# Altium integrated library Lattice FPGA XP2.IntLib: 160 symbols (part 12 of 34)
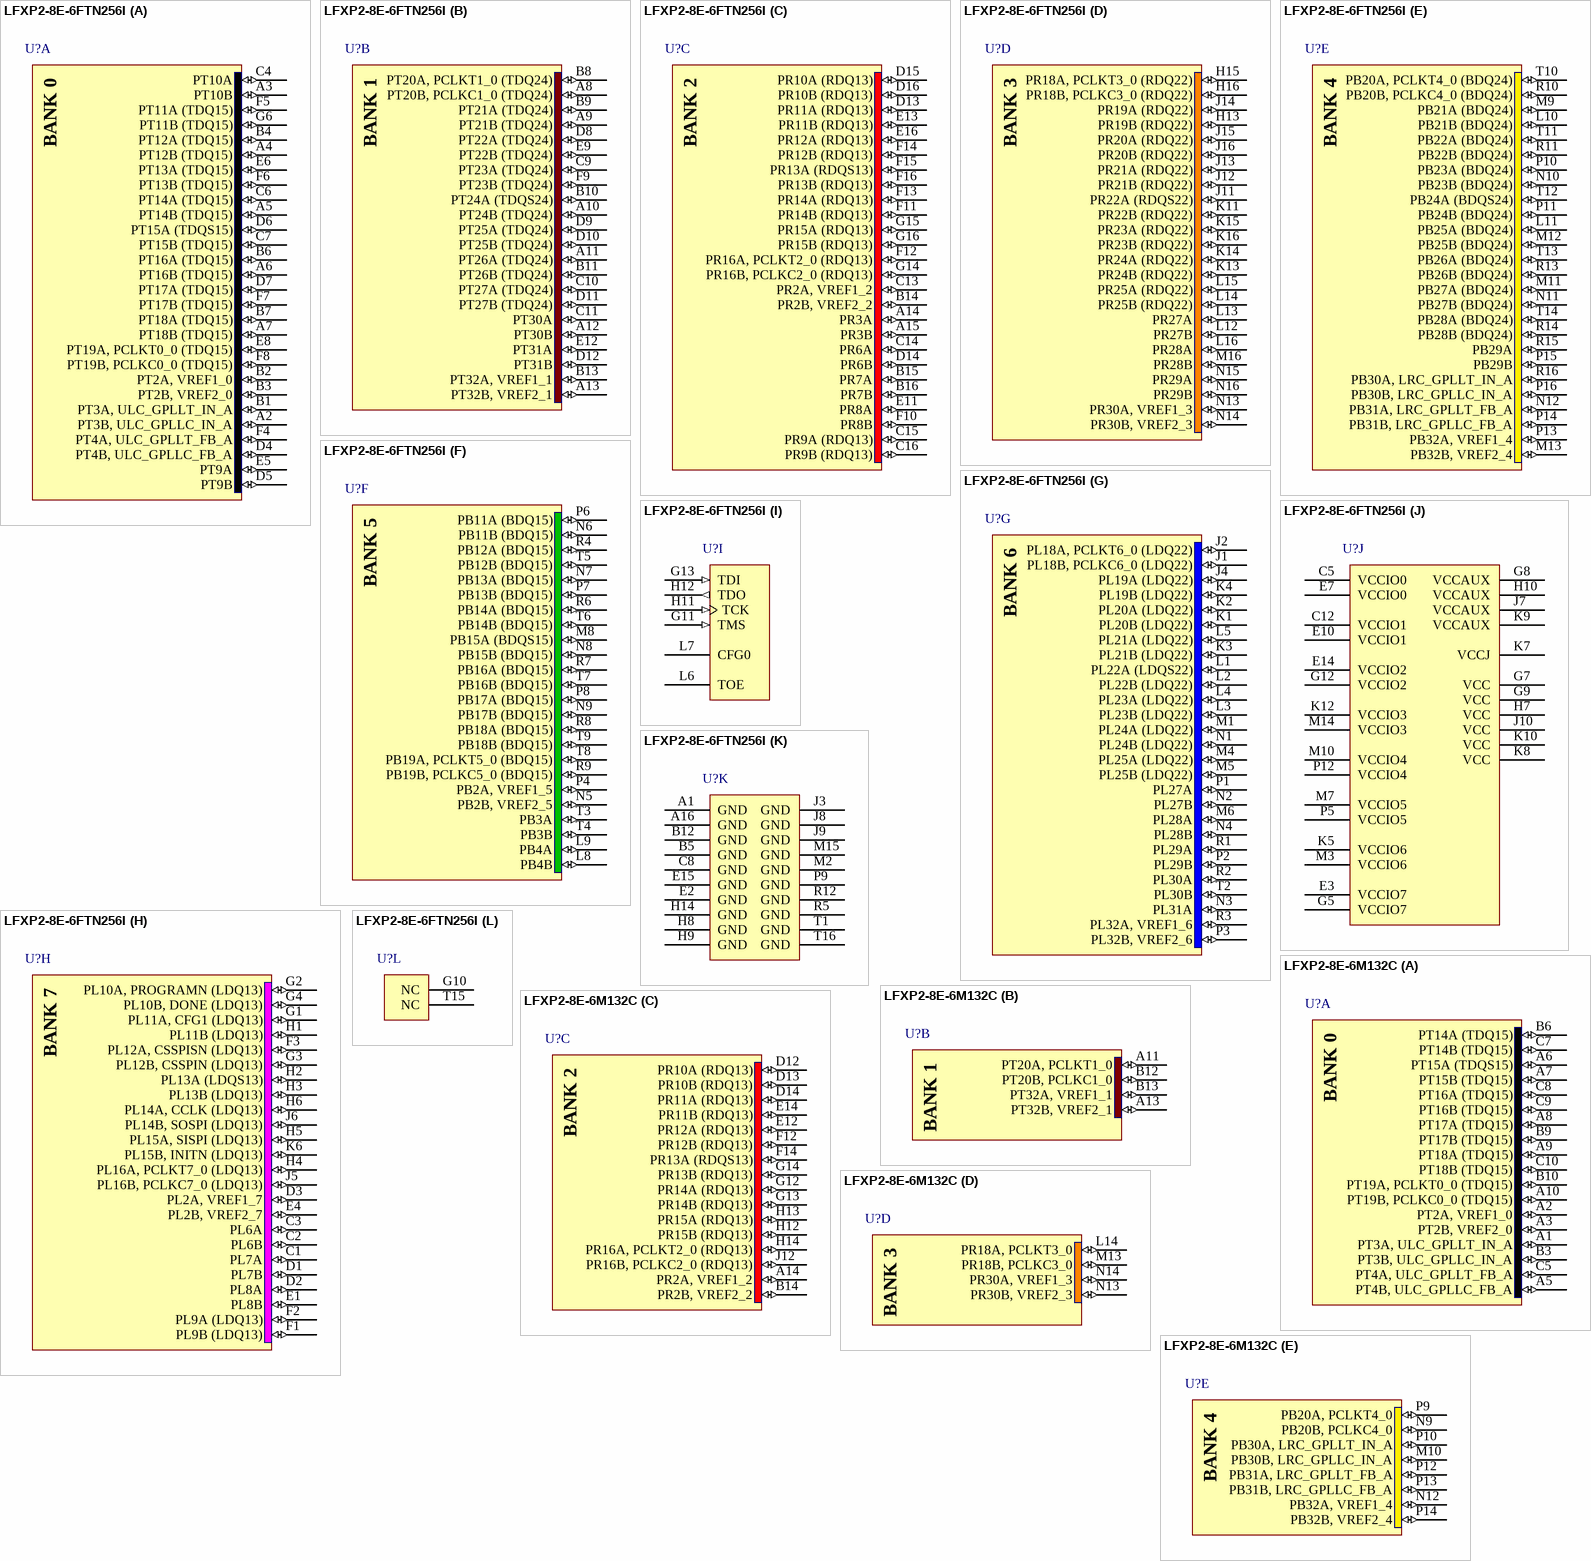
[diagram p278: symbols LFXP2-8E-6FTN256I to LFXP2-8E-6M132C]

## LFXP2-8E-6FTN256I
designator U?
XP2, 1.2V FPGA, 201 I/Os, 8K LUTs, 256-Pin ftBGA, Speed Grade 6, Industrial Grade, Pb-Free; Published: 18-Jun-2008; DatasheetVersion: ver01.8, Jun-2008; PackageVersion: ver01.6 Apr-2008; PackageReference: ftBGA256; Publisher: Altium Limited; PackageDescription: 256-Ball Fine Thin Ball Grid Array (ftBGA256); ComponentLink1Description: Manufacturer Link; ComponentLink1URL: http://www.latticesemi.com/products/fpga/xp2/index.cfm; ComponentLink2Description: Datasheet; ComponentLink2URL: http://www.latticesemi.com/documents/DS1009.pdf; ComponentLink3Description: Packaging Specification; ComponentLink3URL: http://www.latticesemi.com/lit/docs/package/pkg.pdf
footprint ftBGA256 (BGA, 256-Leads, Body 17x17mm, Pitch 1mm)
3D model LFXP2-8E-FT256 (256-Ball Fine Thin Ball Grid Array (ftBGA256))
part A pins: A2 PT3B, ULC_GPLLC_IN_A (io), A3 PT10B (io), A4 PT12B (TDQ15) (io), A5 PT14B (TDQ15) (io), A6 PT16B (TDQ15) (io), A7 PT18B (TDQ15) (io), B1 PT3A, ULC_GPLLT_IN_A (io), B2 PT2A, VREF1_0 (io), B3 PT2B, VREF2_0 (io), B4 PT12A (TDQ15) (io), B6 PT16A (TDQ15) (io), B7 PT18A (TDQ15) (io), C4 PT10A (io), C6 PT14A (TDQ15) (io), C7 PT15B (TDQ15) (io), D4 PT4B, ULC_GPLLC_FB_A (io), D5 PT9B (io), D6 PT15A (TDQS15) (io), D7 PT17A (TDQ15) (io), E5 PT9A (io), E6 PT13A (TDQ15) (io), E8 PT19A, PCLKT0_0 (TDQ15) (io), F4 PT4A, ULC_GPLLT_FB_A (io), F5 PT11A (TDQ15) (io), F6 PT13B (TDQ15) (io), F7 PT17B (TDQ15) (io), F8 PT19B, PCLKC0_0 (TDQ15) (io), G6 PT11B (TDQ15) (io)
part B pins: A8 PT20B, PCLKC1_0 (TDQ24) (io), A9 PT21B (TDQ24) (io), A10 PT24B (TDQ24) (io), A11 PT26A (TDQ24) (io), A12 PT30B (io), A13 PT32B, VREF2_1 (io), B8 PT20A, PCLKT1_0 (TDQ24) (io), B9 PT21A (TDQ24) (io), B10 PT24A (TDQS24) (io), B11 PT26B (TDQ24) (io), B13 PT32A, VREF1_1 (io), C9 PT23A (TDQ24) (io), C10 PT27A (TDQ24) (io), C11 PT30A (io), D8 PT22A (TDQ24) (io), D9 PT25A (TDQ24) (io), D10 PT25B (TDQ24) (io), D11 PT27B (TDQ24) (io), D12 PT31B (io), E9 PT22B (TDQ24) (io), E12 PT31A (io), F9 PT23B (TDQ24) (io)
part C pins: A14 PR3A (io), A15 PR3B (io), B14 PR2B, VREF2_2 (io), B15 PR7A (io), B16 PR7B (io), C13 PR2A, VREF1_2 (io), C14 PR6A (io), C15 PR9A (RDQ13) (io), C16 PR9B (RDQ13) (io), D13 PR11A (RDQ13) (io), D14 PR6B (io), D15 PR10A (RDQ13) (io), D16 PR10B (RDQ13) (io), E11 PR8A (io), E13 PR11B (RDQ13) (io), E16 PR12A (RDQ13) (io), F10 PR8B (io), F11 PR14B (RDQ13) (io), F12 PR16A, PCLKT2_0 (RDQ13) (io), F13 PR14A (RDQ13) (io), F14 PR12B (RDQ13) (io), F15 PR13A (RDQS13) (io), F16 PR13B (RDQ13) (io), G14 PR16B, PCLKC2_0 (RDQ13) (io), G15 PR15A (RDQ13) (io), G16 PR15B (RDQ13) (io)
part D pins: H13 PR19B (RDQ22) (io), H15 PR18A, PCLKT3_0 (RDQ22) (io), H16 PR18B, PCLKC3_0 (RDQ22) (io), J11 PR22A (RDQS22) (io), J12 PR21B (RDQ22) (io), J13 PR21A (RDQ22) (io), J14 PR19A (RDQ22) (io), J15 PR20A (RDQ22) (io), J16 PR20B (RDQ22) (io), K11 PR22B (RDQ22) (io), K13 PR24B (RDQ22) (io), K14 PR24A (RDQ22) (io), K15 PR23A (RDQ22) (io), K16 PR23B (RDQ22) (io), L12 PR27B (io), L13 PR27A (io), L14 PR25B (RDQ22) (io), L15 PR25A (RDQ22) (io), L16 PR28A (io), M16 PR28B (io), N13 PR30A, VREF1_3 (io), N14 PR30B, VREF2_3 (io), N15 PR29A (io), N16 PR29B (io)
part E pins: L10 PB21B (BDQ24) (io), L11 PB25A (BDQ24) (io), M9 PB21A (BDQ24) (io), M11 PB27A (BDQ24) (io), M12 PB25B (BDQ24) (io), M13 PB32B, VREF2_4 (io), N10 PB23B (BDQ24) (io), N11 PB27B (BDQ24) (io), N12 PB31A, LRC_GPLLT_FB_A (io), P10 PB23A (BDQ24) (io), P11 PB24B (BDQ24) (io), P13 PB32A, VREF1_4 (io), P14 PB31B, LRC_GPLLC_FB_A (io), P15 PB29B (io), P16 PB30B, LRC_GPLLC_IN_A (io), R10 PB20B, PCLKC4_0 (BDQ24) (io), R11 PB22B (BDQ24) (io), R13 PB26B (BDQ24) (io), R14 PB28B (BDQ24) (io), R15 PB29A (io), R16 PB30A, LRC_GPLLT_IN_A (io), T10 PB20A, PCLKT4_0 (BDQ24) (io), T11 PB22A (BDQ24) (io), T12 PB24A (BDQS24) (io), T13 PB26A (BDQ24) (io), T14 PB28A (BDQ24) (io)
part F pins: L8 PB4B (io), L9 PB4A (io), M8 PB15A (BDQS15) (io), N5 PB2B, VREF2_5 (io), N6 PB11B (BDQ15) (io), N7 PB13A (BDQ15) (io), N8 PB15B (BDQ15) (io), N9 PB17B (BDQ15) (io), P4 PB2A, VREF1_5 (io), P6 PB11A (BDQ15) (io), P7 PB13B (BDQ15) (io), P8 PB17A (BDQ15) (io), R4 PB12A (BDQ15) (io), R6 PB14A (BDQ15) (io), R7 PB16A (BDQ15) (io), R8 PB18A (BDQ15) (io), R9 PB19B, PCLKC5_0 (BDQ15) (io), T3 PB3A (io), T4 PB3B (io), T5 PB12B (BDQ15) (io), T6 PB14B (BDQ15) (io), T7 PB16B (BDQ15) (io), T8 PB19A, PCLKT5_0 (BDQ15) (io), T9 PB18B (BDQ15) (io)
part G pins: J1 PL18B, PCLKC6_0 (LDQ22) (io), J2 PL18A, PCLKT6_0 (LDQ22) (io), J4 PL19A (LDQ22) (io), K1 PL20B (LDQ22) (io), K2 PL20A (LDQ22) (io), K3 PL21B (LDQ22) (io), K4 PL19B (LDQ22) (io), L1 PL22A (LDQS22) (io), L2 PL22B (LDQ22) (io), L3 PL23B (LDQ22) (io), L4 PL23A (LDQ22) (io), L5 PL21A (LDQ22) (io), M1 PL24A (LDQ22) (io), M4 PL25A (LDQ22) (io), M5 PL25B (LDQ22) (io), M6 PL28A (io), N1 PL24B (LDQ22) (io), N2 PL27B (io), N3 PL31A (io), N4 PL28B (io), P1 PL27A (io), P2 PL29B (io), P3 PL32B, VREF2_6 (io), R1 PL29A (io), R2 PL30A (io), R3 PL32A, VREF1_6 (io), T2 PL30B (io)
part H pins: C1 PL7A (io), C2 PL6B (io), C3 PL6A (io), D1 PL7B (io), D2 PL8A (io), D3 PL2A, VREF1_7 (io), E1 PL8B (io), E4 PL2B, VREF2_7 (io), F1 PL9B (LDQ13) (io), F2 PL9A (LDQ13) (io), F3 PL12A, CSSPISN (LDQ13) (io), G1 PL11A, CFG1 (LDQ13) (io), G2 PL10A, PROGRAMN (LDQ13) (io), G3 PL12B, CSSPIN (LDQ13) (io), G4 PL10B, DONE (LDQ13) (io), H1 PL11B (LDQ13) (io), H2 PL13A (LDQS13) (io), H3 PL13B (LDQ13) (io), H4 PL16A, PCLKT7_0 (LDQ13) (io), H5 PL15A, SISPI (LDQ13) (io), H6 PL14A, CCLK (LDQ13) (io), J5 PL16B, PCLKC7_0 (LDQ13) (io), J6 PL14B, SOSPI (LDQ13) (io), K6 PL15B, INITN (LDQ13) (io)
part I pins: G11 TMS (in), G13 TDI (in), H11 TCK (in), H12 TDO (out), L6 TOE, L7 CFG0
part J pins: C5 VCCIO0 (power), C12 VCCIO1 (power), E3 VCCIO7 (power), E7 VCCIO0 (power), E10 VCCIO1 (power), E14 VCCIO2 (power), G5 VCCIO7 (power), G7 VCC (power), G8 VCCAUX (power), G9 VCC (power), G12 VCCIO2 (power), H7 VCC (power), H10 VCCAUX (power), J7 VCCAUX (power), J10 VCC (power), K5 VCCIO6 (power), K7 VCCJ (power), K8 VCC (power), K9 VCCAUX (power), K10 VCC (power), K12 VCCIO3 (power), M3 VCCIO6 (power), M7 VCCIO5 (power), M10 VCCIO4 (power), M14 VCCIO3 (power), P5 VCCIO5 (power), P12 VCCIO4 (power)
part K pins: A1 GND (power), A16 GND (power), B5 GND (power), B12 GND (power), C8 GND (power), E2 GND (power), E15 GND (power), H8 GND (power), H9 GND (power), H14 GND (power), J3 GND (power), J8 GND (power), J9 GND (power), M2 GND (power), M15 GND (power), P9 GND (power), R5 GND (power), R12 GND (power), T1 GND (power), T16 GND (power)
part L pins: G10 NC, T15 NC
part A text: BANK 0
part B text: BANK 1
part C text: BANK 2
part D text: BANK 3
part E text: BANK 4
part F text: BANK 5
part G text: BANK 6
part H text: BANK 7

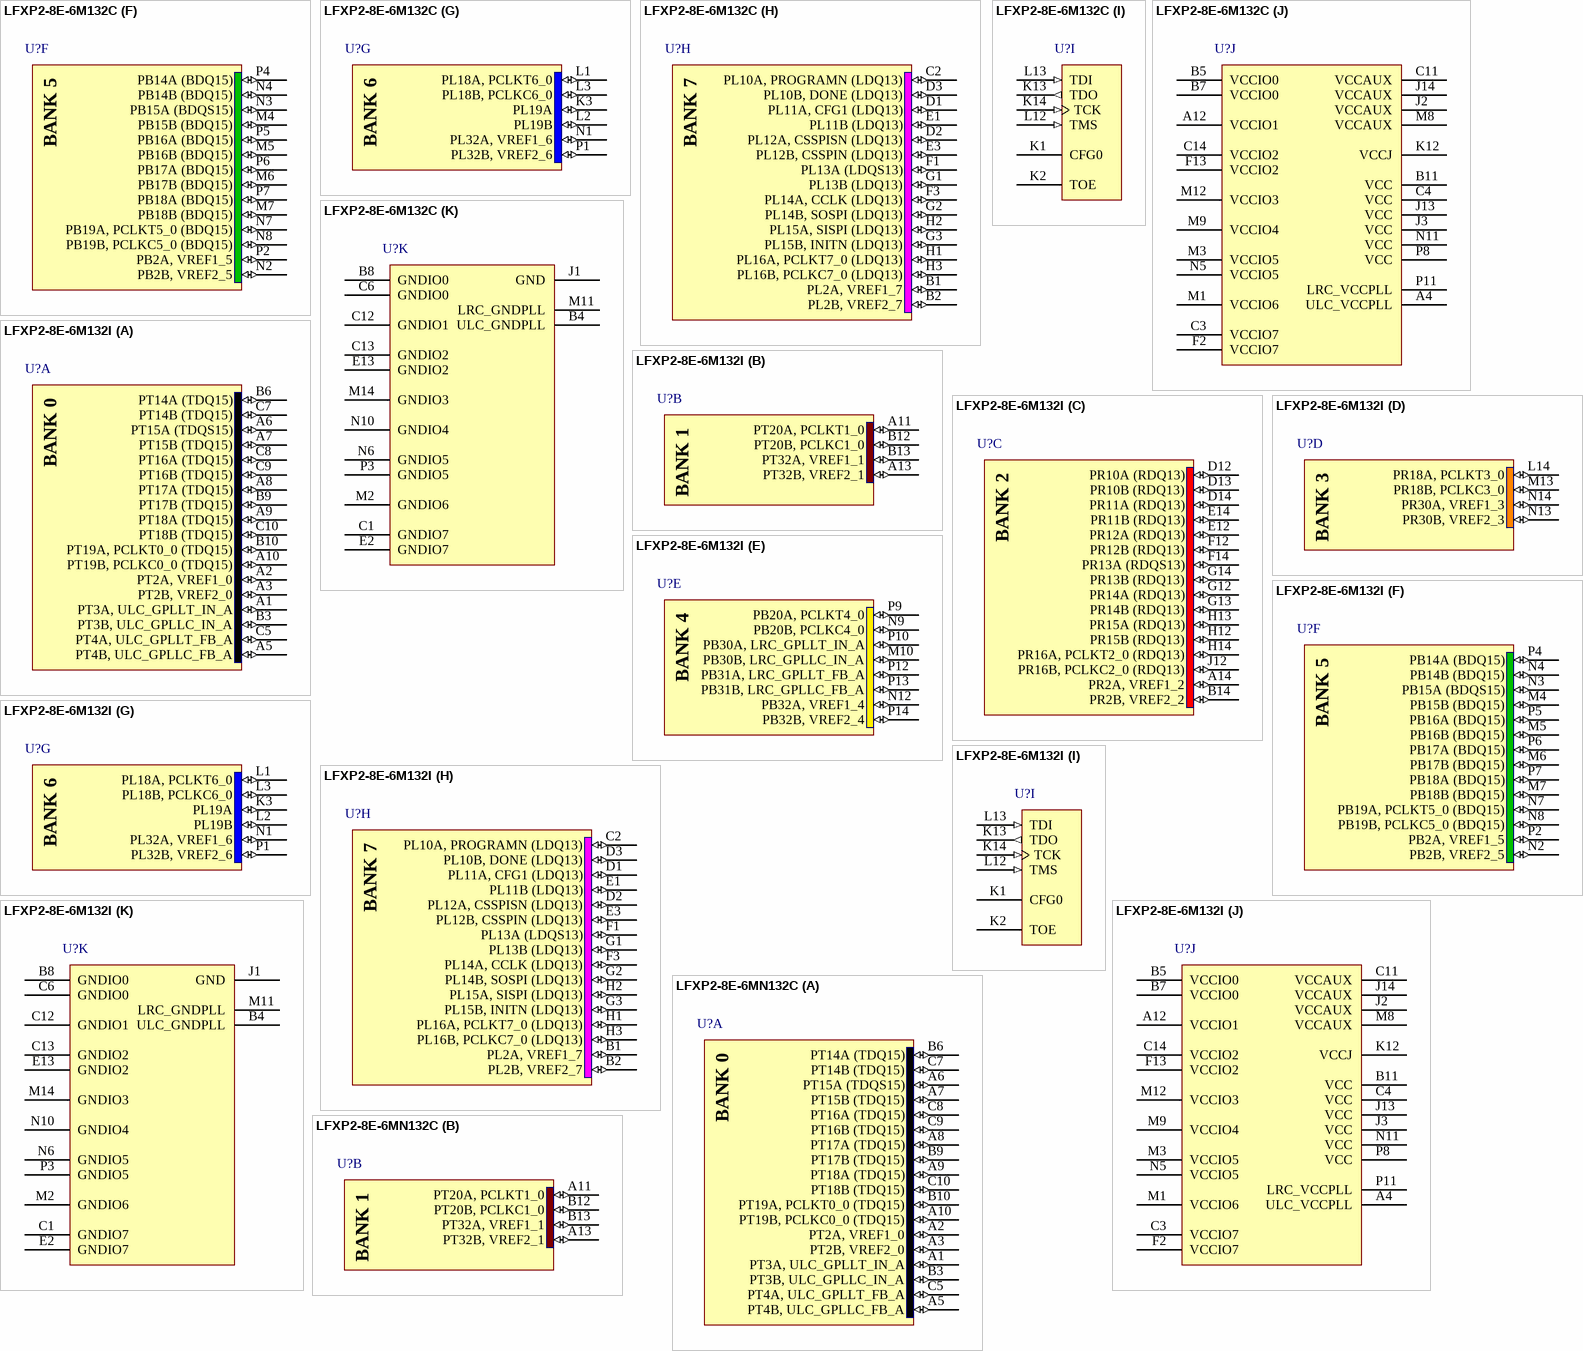
[diagram p39: symbols LFXP2-8E-6M132C to LFXP2-8E-6MN132C]

## LFXP2-8E-6M132C
designator U?
XP2, 1.2V FPGA, 86 I/Os, 8K LUTs, 132-Pin csBGA, Speed Grade 6, Commercial Grade; Published: 18-Jun-2008; DatasheetVersion: ver01.8, Jun-2008; PackageVersion: ver01.6 Apr-2008; PackageReference: csBGA132; Publisher: Altium Limited; PackageDescription: 132-Ball Chip Scale Ball Grid Array (csBGA132); ComponentLink1Description: Manufacturer Link; ComponentLink1URL: http://www.latticesemi.com/products/fpga/xp2/index.cfm; ComponentLink2Description: Datasheet; ComponentLink2URL: http://www.latticesemi.com/documents/DS1009.pdf; ComponentLink3Description: Packaging Specification; ComponentLink3URL: http://www.latticesemi.com/lit/docs/package/pkg.pdf
footprint csBGA132 (BGA, 132-Leads, Body 8x8mm, Pitch 0.5mm)
3D model LFXP2-8E-M132 (132-Ball Chip Scale Ball Grid Array (csBGA132))
part A pins: A1 PT3A, ULC_GPLLT_IN_A (io), A2 PT2A, VREF1_0 (io), A3 PT2B, VREF2_0 (io), A5 PT4B, ULC_GPLLC_FB_A (io), A6 PT15A (TDQS15) (io), A7 PT15B (TDQ15) (io), A8 PT17A (TDQ15) (io), A9 PT18A (TDQ15) (io), A10 PT19B, PCLKC0_0 (TDQ15) (io), B3 PT3B, ULC_GPLLC_IN_A (io), B6 PT14A (TDQ15) (io), B9 PT17B (TDQ15) (io), B10 PT19A, PCLKT0_0 (TDQ15) (io), C5 PT4A, ULC_GPLLT_FB_A (io), C7 PT14B (TDQ15) (io), C8 PT16A (TDQ15) (io), C9 PT16B (TDQ15) (io), C10 PT18B (TDQ15) (io)
part B pins: A11 PT20A, PCLKT1_0 (io), A13 PT32B, VREF2_1 (io), B12 PT20B, PCLKC1_0 (io), B13 PT32A, VREF1_1 (io)
part C pins: A14 PR2A, VREF1_2 (io), B14 PR2B, VREF2_2 (io), D12 PR10A (RDQ13) (io), D13 PR10B (RDQ13) (io), D14 PR11A (RDQ13) (io), E12 PR12A (RDQ13) (io), E14 PR11B (RDQ13) (io), F12 PR12B (RDQ13) (io), F14 PR13A (RDQS13) (io), G12 PR14A (RDQ13) (io), G13 PR14B (RDQ13) (io), G14 PR13B (RDQ13) (io), H12 PR15B (RDQ13) (io), H13 PR15A (RDQ13) (io), H14 PR16A, PCLKT2_0 (RDQ13) (io), J12 PR16B, PCLKC2_0 (RDQ13) (io)
part D pins: L14 PR18A, PCLKT3_0 (io), M13 PR18B, PCLKC3_0 (io), N13 PR30B, VREF2_3 (io), N14 PR30A, VREF1_3 (io)
part E pins: M10 PB30B, LRC_GPLLC_IN_A (io), N9 PB20B, PCLKC4_0 (io), N12 PB32A, VREF1_4 (io), P9 PB20A, PCLKT4_0 (io), P10 PB30A, LRC_GPLLT_IN_A (io), P12 PB31A, LRC_GPLLT_FB_A (io), P13 PB31B, LRC_GPLLC_FB_A (io), P14 PB32B, VREF2_4 (io)
part F pins: M4 PB15B (BDQ15) (io), M5 PB16B (BDQ15) (io), M6 PB17B (BDQ15) (io), M7 PB18B (BDQ15) (io), N2 PB2B, VREF2_5 (io), N3 PB15A (BDQS15) (io), N4 PB14B (BDQ15) (io), N7 PB19A, PCLKT5_0 (BDQ15) (io), N8 PB19B, PCLKC5_0 (BDQ15) (io), P2 PB2A, VREF1_5 (io), P4 PB14A (BDQ15) (io), P5 PB16A (BDQ15) (io), P6 PB17A (BDQ15) (io), P7 PB18A (BDQ15) (io)
part G pins: K3 PL19A (io), L1 PL18A, PCLKT6_0 (io), L2 PL19B (io), L3 PL18B, PCLKC6_0 (io), N1 PL32A, VREF1_6 (io), P1 PL32B, VREF2_6 (io)
part H pins: B1 PL2A, VREF1_7 (io), B2 PL2B, VREF2_7 (io), C2 PL10A, PROGRAMN (LDQ13) (io), D1 PL11A, CFG1 (LDQ13) (io), D2 PL12A, CSSPISN (LDQ13) (io), D3 PL10B, DONE (LDQ13) (io), E1 PL11B (LDQ13) (io), E3 PL12B, CSSPIN (LDQ13) (io), F1 PL13A (LDQS13) (io), F3 PL14A, CCLK (LDQ13) (io), G1 PL13B (LDQ13) (io), G2 PL14B, SOSPI (LDQ13) (io), G3 PL15B, INITN (LDQ13) (io), H1 PL16A, PCLKT7_0 (LDQ13) (io), H2 PL15A, SISPI (LDQ13) (io), H3 PL16B, PCLKC7_0 (LDQ13) (io)
part I pins: K1 CFG0, K2 TOE, K13 TDO (out), K14 TCK (in), L12 TMS (in), L13 TDI (in)
part J pins: A4 ULC_VCCPLL (power), A12 VCCIO1 (power), B5 VCCIO0 (power), B7 VCCIO0 (power), B11 VCC (power), C3 VCCIO7 (power), C4 VCC (power), C11 VCCAUX (power), C14 VCCIO2 (power), F2 VCCIO7 (power), F13 VCCIO2 (power), J2 VCCAUX (power), J3 VCC (power), J13 VCC (power), J14 VCCAUX (power), K12 VCCJ (power), M1 VCCIO6 (power), M3 VCCIO5 (power), M8 VCCAUX (power), M9 VCCIO4 (power), M12 VCCIO3 (power), N5 VCCIO5 (power), N11 VCC (power), P8 VCC (power), P11 LRC_VCCPLL (power)
part K pins: B4 ULC_GNDPLL (power), B8 GNDIO0 (power), C1 GNDIO7 (power), C6 GNDIO0 (power), C12 GNDIO1 (power), C13 GNDIO2 (power), E2 GNDIO7 (power), E13 GNDIO2 (power), J1 GND (power), M2 GNDIO6 (power), M11 LRC_GNDPLL (power), M14 GNDIO3 (power), N6 GNDIO5 (power), N10 GNDIO4 (power), P3 GNDIO5 (power)
part A text: BANK 0
part B text: BANK 1
part C text: BANK 2
part D text: BANK 3
part E text: BANK 4
part F text: BANK 5
part G text: BANK 6
part H text: BANK 7